# Altium schematic symbol library issi.SchLib: 1 symbol
Pins are listed as number, name and electrical type; pins without a type are passive.

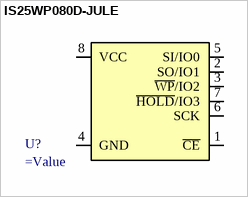
[diagram p0: symbol IS25WP080D-JULE]

## IS25WP080D-JULE
designator U?
8Mb SERIAL FLASH MEMORY WITH 133MHZ MULTI I/O SPI & QUAD I/O QPI DTR INTERFACE
pins: 1 ~{CE}, 2 SO/IO1, 3 ~{WP}/IO2 (power), 4 GND (power), 5 SI/IO0 (power), 6 SCK (power), 7 ~{HOLD}/IO3, 8 VCC, 11 NC hidden